# EAGLE library part ESDA6V1-5W6 (library WCSMain)
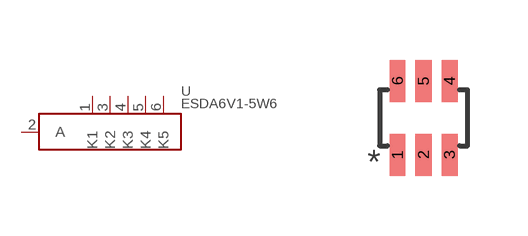
[diagram p14: symbol with the pads of SOT323-6L; footprint SOT323-6L]

Designator prefix -

## ESDA6V1-5W6  [SOT323-6L]
1  K1  pas
2  A  pas
3  K2  pas
4  K3  pas
5  K4  pas
6  K5  pas

## Footprint SOT323-6L (pad centres in mm)
smd 0.4 x 1.05: 1 -0.65,-0.925; 2 0,-0.925; 3 0.65,-0.925; 4 0.65,0.925; 5 0,0.925; 6 -0.65,0.925